# Altium integrated library Ferrite Chip.IntLib: 462 symbols (part 4 of 7)
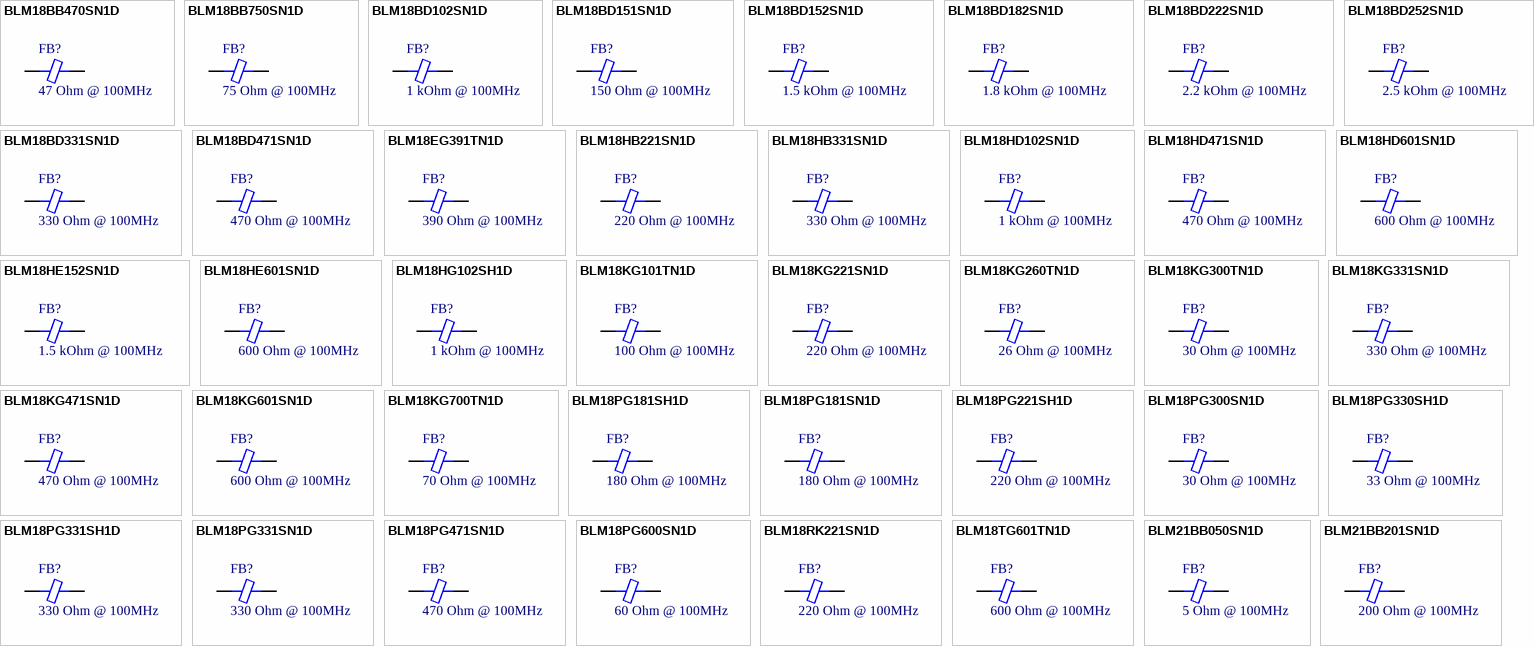
[diagram p14: symbols BLM18BB470SN1D to BLM21BB201SN1D]

## BLM18HD471SN1D
designator FB?, comment 470 Ohm @ 100MHz
FERRITE CHIP 470 OHM 100MA 0603; Part Number: BLM18HD471SN1D; Manufacturer: Murata Electronics North America; Type: Differential Mode - Single; DC Resistance: 1.2 Ohm Max; PartId: 6734; Value: 470 Ohm @ 100MHz; Supplier 1: Digi-Key; Supplier Part Number 1: 490-1029-2-ND; ComponentLink1Description: Datasheet; ComponentLink1URL: http://search.murata.co.jp/Ceramy/image/img/PDF/ENG/L0110S0101BLM18H.pdf; ComponentLink2Description: Digi-Key listing; ComponentLink2URL: http://digikey.com/product-detail/en/BLM18HD471SN1D/490-1029-2-ND/584240; Price: 0.0666; Device Package: 0603 (1608 Metric); Current Rating: 100mA
footprint FER 0603/1608
pins: 1, 2

## BLM18HD601SN1D
designator FB?, comment 600 Ohm @ 100MHz
FERRITE CHIP 600 OHM 100MA 0603; Part Number: BLM18HD601SN1D; Manufacturer: Murata Electronics North America; Type: Differential Mode - Single; DC Resistance: 1.5 Ohm Max; PartId: 6732; Value: 600 Ohm @ 100MHz; Supplier 1: Digi-Key; Supplier Part Number 1: 490-1030-2-ND; ComponentLink1Description: Datasheet; ComponentLink1URL: http://search.murata.co.jp/Ceramy/image/img/PDF/ENG/L0110S0101BLM18H.pdf; ComponentLink2Description: Digi-Key listing; ComponentLink2URL: http://digikey.com/product-detail/en/BLM18HD601SN1D/490-1030-2-ND/584241; Price: 0.0666; Device Package: 0603 (1608 Metric); Current Rating: 100mA
footprint FER 0603/1608
pins: 1, 2

## BLM18HE152SN1D
designator FB?, comment 1.5 kOhm @ 100MHz
FERRITE CHIP 1500 OHM 500MA 0603; Part Number: BLM18HE152SN1D; Manufacturer: Murata Electronics North America; Type: Differential Mode - Single; DC Resistance: 500 mOhm Max; PartId: 6736; Value: 1.5 kOhm @ 100MHz; Supplier 1: Digi-Key; Supplier Part Number 1: 490-5216-2-ND; ComponentLink1Description: Datasheet; ComponentLink1URL: http://search.murata.co.jp/Ceramy/image/img/PDF/ENG/L0110S0101BLM18H.pdf; ComponentLink2Description: Digi-Key listing; ComponentLink2URL: http://digikey.com/product-detail/en/BLM18HE152SN1D/490-5216-2-ND/1948321; Price: 0.0833; Device Package: 0603 (1608 Metric); Current Rating: 500mA
footprint FER 0603/1608
pins: 1, 2

## BLM18HE601SN1D
designator FB?, comment 600 Ohm @ 100MHz
FERRITE CHIP 600 OHM 800MA 0603; Part Number: BLM18HE601SN1D; Manufacturer: Murata Electronics North America; Type: Differential Mode - Single; DC Resistance: 250 mOhm Max; PartId: 6735; Value: 600 Ohm @ 100MHz; Supplier 1: Digi-Key; Supplier Part Number 1: 490-5214-2-ND; ComponentLink1Description: Datasheet; ComponentLink1URL: http://search.murata.co.jp/Ceramy/image/img/PDF/ENG/L0110S0101BLM18H.pdf; ComponentLink2Description: Digi-Key listing; ComponentLink2URL: http://digikey.com/product-detail/en/BLM18HE601SN1D/490-5214-2-ND/1948319; Price: 0.0753; Device Package: 0603 (1608 Metric); Current Rating: 800mA
footprint FER 0603/1608
pins: 1, 2

## BLM18HG102SH1D
designator FB?, comment 1 kOhm @ 100MHz
FERRITE CHIP 1K OHM 100MA 0603; Part Number: BLM18HG102SH1D; Manufacturer: Murata Electronics North America; Type: Differential Mode - Single; DC Resistance: 1.6 Ohm Max; PartId: 6731; Value: 1 kOhm @ 100MHz; Supplier 1: Digi-Key; Supplier Part Number 1: 490-11033-2-ND; ComponentLink1Description: Datasheet; ComponentLink1URL: http://search.murata.co.jp/Ceramy/image/img/A03X/QNFA9104.pdf; ComponentLink2Description: Digi-Key listing; ComponentLink2URL: http://digikey.com/product-detail/en/BLM18HG102SH1D/490-11033-2-ND/2588039; Price: 0.0645; Device Package: 0603 (1608 Metric); Current Rating: 100mA
footprint FER 0603/1608
pins: 1, 2

## BLM18KG101TN1D
designator FB?, comment 100 Ohm @ 100MHz
FERRITE CHIP 100 OHM CHIP 0603; Part Number: BLM18KG101TN1D; Manufacturer: Murata Electronics North America; Type: Differential Mode - Single; DC Resistance: 30 mOhm Max; Current Rating: 3A; PartId: 6697; Value: 100 Ohm @ 100MHz; Supplier 1: Digi-Key; Supplier Part Number 1: 490-5448-2-ND; ComponentLink1Description: Datasheet; ComponentLink1URL: http://media.digikey.com/pdf/Data%20Sheets/Murata%20PDFs/BLM18yyyyyyN1x.pdf; ComponentLink2Description: Digi-Key listing; ComponentLink2URL: http://digikey.com/product-detail/en/BLM18KG101TN1D/490-5448-2-ND/2260753; Price: 0.0331; Device Package: 0603 (1608 Metric)
footprint FER 0603/1608
pins: 1, 2

## BLM18KG221SN1D
designator FB?, comment 220 Ohm @ 100MHz
FERRITE CHIP 220 OHM 2200MA 0603; Part Number: BLM18KG221SN1D; Manufacturer: Murata Electronics North America; Type: Differential Mode - Single; DC Resistance: 50 mOhm Max; Current Rating: 2.2A; PartId: 6693; Value: 220 Ohm @ 100MHz; Supplier 1: Digi-Key; Supplier Part Number 1: 490-5255-2-ND; ComponentLink1Description: Datasheet; ComponentLink1URL: http://media.digikey.com/pdf/Data%20Sheets/Murata%20PDFs/BLM18yyyyyyN1x.pdf; ComponentLink2Description: Digi-Key listing; ComponentLink2URL: http://digikey.com/product-detail/en/BLM18KG221SN1D/490-5255-2-ND/1982763; Price: 0.0331; Device Package: 0603 (1608 Metric)
footprint FER 0603/1608
pins: 1, 2

## BLM18KG260TN1D
designator FB?, comment 26 Ohm @ 100MHz
FERRITE CHIP 26 OHM 6000MA 0603; Part Number: BLM18KG260TN1D; Manufacturer: Murata Electronics North America; Type: Differential Mode - Single; DC Resistance: 7 mOhm Max; Current Rating: 6A; PartId: 6692; Value: 26 Ohm @ 100MHz; Supplier 1: Digi-Key; Supplier Part Number 1: 490-5252-2-ND; ComponentLink1Description: Datasheet; ComponentLink1URL: http://media.digikey.com/pdf/Data%20Sheets/Murata%20PDFs/BLM18yyyyyyN1x.pdf; ComponentLink2Description: Digi-Key listing; ComponentLink2URL: http://digikey.com/product-detail/en/BLM18KG260TN1D/490-5252-2-ND/1982760; Price: 0.0331; Device Package: 0603 (1608 Metric)
footprint FER 0603/1608
pins: 1, 2

## BLM18KG300TN1D
designator FB?, comment 30 Ohm @ 100MHz
FERRITE CHIP 30 OHM CHIP 0603; Part Number: BLM18KG300TN1D; Manufacturer: Murata Electronics North America; Type: Differential Mode - Single; DC Resistance: 10 mOhm Max; Current Rating: 5A; PartId: 6700; Value: 30 Ohm @ 100MHz; Supplier 1: Digi-Key; Supplier Part Number 1: 490-5447-2-ND; ComponentLink1Description: Datasheet; ComponentLink1URL: http://media.digikey.com/pdf/Data%20Sheets/Murata%20PDFs/BLM18yyyyyyN1x.pdf; ComponentLink2Description: Digi-Key listing; ComponentLink2URL: http://digikey.com/product-detail/en/BLM18KG300TN1D/490-5447-2-ND/2260752; Price: 0.0331; Device Package: 0603 (1608 Metric)
footprint FER 0603/1608
pins: 1, 2

## BLM18KG331SN1D
designator FB?, comment 330 Ohm @ 100MHz
FERRITE CHIP 330 OHM 1700MA 0603; Part Number: BLM18KG331SN1D; Manufacturer: Murata Electronics North America; Type: Differential Mode - Single; DC Resistance: 80 mOhm Max; Current Rating: 1.7A; PartId: 6701; Value: 330 Ohm @ 100MHz; Supplier 1: Digi-Key; Supplier Part Number 1: 490-5256-2-ND; ComponentLink1Description: Datasheet; ComponentLink1URL: http://media.digikey.com/pdf/Data%20Sheets/Murata%20PDFs/BLM18yyyyyyN1x.pdf; ComponentLink2Description: Digi-Key listing; ComponentLink2URL: http://digikey.com/product-detail/en/BLM18KG331SN1D/490-5256-2-ND/1982764; Price: 0.0331; Device Package: 0603 (1608 Metric)
footprint FER 0603/1608
pins: 1, 2

## BLM18KG471SN1D
designator FB?, comment 470 Ohm @ 100MHz
FERRITE CHIP 470 OHM 1500MA 0603; Part Number: BLM18KG471SN1D; Manufacturer: Murata Electronics North America; Type: Differential Mode - Single; DC Resistance: 130 mOhm Max; Current Rating: 1.5A; PartId: 6702; Value: 470 Ohm @ 100MHz; Supplier 1: Digi-Key; Supplier Part Number 1: 490-5257-2-ND; ComponentLink1Description: Datasheet; ComponentLink1URL: http://media.digikey.com/pdf/Data%20Sheets/Murata%20PDFs/BLM18yyyyyyN1x.pdf; ComponentLink2Description: Digi-Key listing; ComponentLink2URL: http://digikey.com/product-detail/en/BLM18KG471SN1D/490-5257-2-ND/1982765; Price: 0.0331; Device Package: 0603 (1608 Metric)
footprint FER 0603/1608
pins: 1, 2

## BLM18KG601SN1D
designator FB?, comment 600 Ohm @ 100MHz
FERRITE CHIP 600 OHM 1300MA 0603; Part Number: BLM18KG601SN1D; Manufacturer: Murata Electronics North America; Type: Differential Mode - Single; DC Resistance: 150 mOhm Max; Current Rating: 1.3A; PartId: 6691; Value: 600 Ohm @ 100MHz; Supplier 1: Digi-Key; Supplier Part Number 1: 490-5258-2-ND; ComponentLink1Description: Datasheet; ComponentLink1URL: http://media.digikey.com/pdf/Data%20Sheets/Murata%20PDFs/BLM18yyyyyyN1x.pdf; ComponentLink2Description: Digi-Key listing; ComponentLink2URL: http://digikey.com/product-detail/en/BLM18KG601SN1D/490-5258-2-ND/1982766; Price: 0.0331; Device Package: 0603 (1608 Metric)
footprint FER 0603/1608
pins: 1, 2

## BLM18KG700TN1D
designator FB?, comment 70 Ohm @ 100MHz
FERRITE CHIP 70 OHM 3500MA 0603; Part Number: BLM18KG700TN1D; Manufacturer: Murata Electronics North America; Type: Differential Mode - Single; DC Resistance: 22 mOhm Max; Current Rating: 3.5A; PartId: 6694; Value: 70 Ohm @ 100MHz; Supplier 1: Digi-Key; Supplier Part Number 1: 490-5253-2-ND; ComponentLink1Description: Datasheet; ComponentLink1URL: http://media.digikey.com/pdf/Data%20Sheets/Murata%20PDFs/BLM18yyyyyyN1x.pdf; ComponentLink2Description: Digi-Key listing; ComponentLink2URL: http://digikey.com/product-detail/en/BLM18KG700TN1D/490-5253-2-ND/1982761; Price: 0.0331; Device Package: 0603 (1608 Metric)
footprint FER 0603/1608
pins: 1, 2

## BLM18PG181SH1D
designator FB?, comment 180 Ohm @ 100MHz
FERRITE CHIP 180 OHM 1.5A 0603; Part Number: BLM18PG181SH1D; Manufacturer: Murata Electronics North America; Type: Differential Mode - Single; DC Resistance: 90 mOhm Max; PartId: 6722; Value: 180 Ohm @ 100MHz; Supplier 1: Digi-Key; Supplier Part Number 1: 490-7816-2-ND; ComponentLink1Description: Datasheet; ComponentLink1URL: http://search.murata.co.jp/Ceramy/image/img/PDF/ENG/L0132S0193BLM18P.pdf; ComponentLink2Description: Digi-Key listing; ComponentLink2URL: http://digikey.com/product-detail/en/BLM18PG181SH1D/490-7816-2-ND/2588044; Price: 0.0366; Device Package: 0603 (1608 Metric); Current Rating: 1.5A
footprint FER 0603/1608
pins: 1, 2

## BLM18PG181SN1D
designator FB?, comment 180 Ohm @ 100MHz
FERRITE CHIP 180OHM 1500MA 0603; Part Number: BLM18PG181SN1D; Manufacturer: Murata Electronics North America; Type: Differential Mode - Single; DC Resistance: 90 mOhm Max; Current Rating: 1.5A; PartId: 6671; Value: 180 Ohm @ 100MHz; Supplier 1: Digi-Key; Supplier Part Number 1: 490-5263-2-ND; ComponentLink1Description: Datasheet; ComponentLink1URL: http://search.murata.co.jp/Ceramy/image/img/PDF/ENG/L0110S0100BLM18P.pdf; ComponentLink2Description: Digi-Key listing; ComponentLink2URL: http://digikey.com/product-detail/en/BLM18PG181SN1D/490-5263-2-ND/1634634; Price: 0.0317; Device Package: 0603 (1608 Metric)
footprint FER 0603/1608
pins: 1, 2

## BLM18PG221SH1D
designator FB?, comment 220 Ohm @ 100MHz
FERRITE CHIP 220 OHM 1.4A 0603; Part Number: BLM18PG221SH1D; Manufacturer: Murata Electronics North America; Type: Differential Mode - Single; DC Resistance: 100 mOhm Max; PartId: 6723; Value: 220 Ohm @ 100MHz; Supplier 1: Digi-Key; Supplier Part Number 1: 490-7817-2-ND; ComponentLink1Description: Datasheet; ComponentLink1URL: http://search.murata.co.jp/Ceramy/image/img/PDF/ENG/L0132S0193BLM18P.pdf; ComponentLink2Description: Digi-Key listing; ComponentLink2URL: http://digikey.com/product-detail/en/BLM18PG221SH1D/490-7817-2-ND/2588045; Price: 0.0366; Device Package: 0603 (1608 Metric); Current Rating: 1.4A
footprint FER 0603/1608
pins: 1, 2

## BLM18PG300SN1D
designator FB?, comment 30 Ohm @ 100MHz
FERRITE CHIP 30 OHM 1000MA 0603; Part Number: BLM18PG300SN1D; Manufacturer: Murata Electronics North America; Type: Differential Mode - Single; DC Resistance: 50 mOhm Max; Current Rating: 1A; PartId: 6673; Value: 30 Ohm @ 100MHz; Supplier 1: Digi-Key; Supplier Part Number 1: 490-1035-2-ND; ComponentLink1Description: Datasheet; ComponentLink1URL: http://search.murata.co.jp/Ceramy/image/img/PDF/ENG/L0110S0100BLM18P.pdf; ComponentLink2Description: Digi-Key listing; ComponentLink2URL: http://digikey.com/product-detail/en/BLM18PG300SN1D/490-1035-2-ND/584246; Price: 0.0317; Device Package: 0603 (1608 Metric)
footprint FER 0603/1608
pins: 1, 2

## BLM18PG330SH1D
designator FB?, comment 33 Ohm @ 100MHz
FERRITE CHIP 33 OHM 3A 0603; Part Number: BLM18PG330SH1D; Manufacturer: Murata Electronics North America; Type: Differential Mode - Single; DC Resistance: 25 mOhm Max; PartId: 6721; Value: 33 Ohm @ 100MHz; Supplier 1: Digi-Key; Supplier Part Number 1: 490-7818-2-ND; ComponentLink1Description: Datasheet; ComponentLink1URL: http://search.murata.co.jp/Ceramy/image/img/PDF/ENG/L0132S0193BLM18P.pdf; ComponentLink2Description: Digi-Key listing; ComponentLink2URL: http://digikey.com/product-detail/en/BLM18PG330SH1D/490-7818-2-ND/2588047; Price: 0.0366; Device Package: 0603 (1608 Metric); Current Rating: 3A
footprint FER 0603/1608
pins: 1, 2

## BLM18PG331SH1D
designator FB?, comment 330 Ohm @ 100MHz
FERRITE CHIP 330 OHM 1.2A 0603; Part Number: BLM18PG331SH1D; Manufacturer: Murata Electronics North America; Type: Differential Mode - Single; DC Resistance: 150 mOhm Max; PartId: 6724; Value: 330 Ohm @ 100MHz; Supplier 1: Digi-Key; Supplier Part Number 1: 490-11035-2-ND; ComponentLink1Description: Datasheet; ComponentLink1URL: http://search.murata.co.jp/Ceramy/image/img/PDF/ENG/L0132S0193BLM18P.pdf; ComponentLink2Description: Digi-Key listing; ComponentLink2URL: http://digikey.com/product-detail/en/BLM18PG331SH1D/490-11035-2-ND/2588048; Price: 0.0366; Device Package: 0603 (1608 Metric); Current Rating: 1.2A
footprint FER 0603/1608
pins: 1, 2

## BLM18PG331SN1D
designator FB?, comment 330 Ohm @ 100MHz
FERRITE CHIP 330 OHM 1200MA 0603; Part Number: BLM18PG331SN1D; Manufacturer: Murata Electronics North America; Type: Differential Mode - Single; DC Resistance: 150 mOhm Max; Current Rating: 1.2A; PartId: 6669; Value: 330 Ohm @ 100MHz; Supplier 1: Digi-Key; Supplier Part Number 1: 490-5222-2-ND; ComponentLink1Description: Datasheet; ComponentLink1URL: http://search.murata.co.jp/Ceramy/image/img/PDF/ENG/L0110S0100BLM18P.pdf; ComponentLink2Description: Digi-Key listing; ComponentLink2URL: http://digikey.com/product-detail/en/BLM18PG331SN1D/490-5222-2-ND/1948327; Price: 0.0317; Device Package: 0603 (1608 Metric)
footprint FER 0603/1608
pins: 1, 2

## BLM18PG471SN1D
designator FB?, comment 470 Ohm @ 100MHz
FERRITE CHIP 470 OHM 1000MA 0603; Part Number: BLM18PG471SN1D; Manufacturer: Murata Electronics North America; Type: Differential Mode - Single; DC Resistance: 200 mOhm Max; Current Rating: 1A; PartId: 6670; Value: 470 Ohm @ 100MHz; Supplier 1: Digi-Key; Supplier Part Number 1: 490-5223-2-ND; ComponentLink1Description: Datasheet; ComponentLink1URL: http://search.murata.co.jp/Ceramy/image/img/PDF/ENG/L0110S0100BLM18P.pdf; ComponentLink2Description: Digi-Key listing; ComponentLink2URL: http://digikey.com/product-detail/en/BLM18PG471SN1D/490-5223-2-ND/1948328; Price: 0.0317; Device Package: 0603 (1608 Metric)
footprint FER 0603/1608
pins: 1, 2

## BLM18PG600SN1D
designator FB?, comment 60 Ohm @ 100MHz
FERRITE CHIP 60 OHM 500MA 0603; Part Number: BLM18PG600SN1D; Manufacturer: Murata Electronics North America; Type: Differential Mode - Single; DC Resistance: 100 mOhm Max; PartId: 6672; Value: 60 Ohm @ 100MHz; Supplier 1: Digi-Key; Supplier Part Number 1: 490-1036-2-ND; ComponentLink1Description: Datasheet; ComponentLink1URL: http://search.murata.co.jp/Ceramy/image/img/PDF/ENG/L0110S0100BLM18P.pdf; ComponentLink2Description: Digi-Key listing; ComponentLink2URL: http://digikey.com/product-detail/en/BLM18PG600SN1D/490-1036-2-ND/584247; Price: 0.0317; Device Package: 0603 (1608 Metric); Current Rating: 500mA
footprint FER 0603/1608
pins: 1, 2

## BLM18RK221SN1D
designator FB?, comment 220 Ohm @ 100MHz
FERRITE CHIP 220 OHM 200MA 0603; Part Number: BLM18RK221SN1D; Manufacturer: Murata Electronics North America; Type: Differential Mode - Single; DC Resistance: 300 mOhm Max; PartId: 6680; Value: 220 Ohm @ 100MHz; Supplier 1: Digi-Key; Supplier Part Number 1: 490-5985-2-ND; ComponentLink1Description: Datasheet; ComponentLink1URL: http://media.digikey.com/pdf/Data%20Sheets/Murata%20PDFs/BLM18yyyyyyN1x.pdf; ComponentLink2Description: Digi-Key listing; ComponentLink2URL: http://digikey.com/product-detail/en/BLM18RK221SN1D/490-5985-2-ND/2588051; Price: 0.0323; Device Package: 0603 (1608 Metric); Current Rating: 200mA
footprint FER 0603/1608
pins: 1, 2

## BLM18TG601TN1D
designator FB?, comment 600 Ohm @ 100MHz
FERRITE CHIP 600 OHM 200MA 0603; Part Number: BLM18TG601TN1D; Manufacturer: Murata Electronics North America; Type: Differential Mode - Single; DC Resistance: 450 mOhm Max; PartId: 6583; Value: 600 Ohm @ 100MHz; Supplier 1: Digi-Key; Supplier Part Number 1: 490-9702-2-ND; ComponentLink1Description: Datasheet; ComponentLink1URL: http://media.digikey.com/pdf/Data%20Sheets/Murata%20PDFs/BLM18yyyyyyN1x.pdf; ComponentLink2Description: Digi-Key listing; ComponentLink2URL: http://digikey.com/product-detail/en/BLM18TG601TN1D/490-9702-2-ND/2588055; Price: 0.0214; Device Package: 0603 (1608 Metric); Current Rating: 200mA
footprint FER 0603/1608
pins: 1, 2

## BLM21BB050SN1D
designator FB?, comment 5 Ohm @ 100MHz
FERRITE CHIP 5 OHM 0805; Part Number: BLM21BB050SN1D; Manufacturer: Murata Electronics North America; Type: Differential Mode - Single; DC Resistance: 20 mOhm Max; Current Rating: 1A; PartId: 6831; Value: 5 Ohm @ 100MHz; Supplier 1: Digi-Key; Supplier Part Number 1: 490-9706-2-ND; ComponentLink1Description: Datasheet; ComponentLink1URL: http://search.murata.co.jp/Ceramy/image/img/PDF/ENG/L0110S0100BLM21B.pdf; ComponentLink2Description: Digi-Key listing; ComponentLink2URL: http://digikey.com/product-detail/en/BLM21BB050SN1D/490-9706-2-ND/2588076; Price: 0.0566; Device Package: 0805 (2012 Metric)
footprint FER 0805/2012
pins: 1, 2

## BLM21BB201SN1D
designator FB?, comment 200 Ohm @ 100MHz
FERRITE CHIP 200 OHM 0805; Part Number: BLM21BB201SN1D; Manufacturer: Murata Electronics North America; Type: Differential Mode - Single; DC Resistance: 260 mOhm Max; Current Rating: 500mA; PartId: 6833; Value: 200 Ohm @ 100MHz; Supplier 1: Digi-Key; Supplier Part Number 1: 490-9707-2-ND; ComponentLink1Description: Datasheet; ComponentLink1URL: http://search.murata.co.jp/Ceramy/image/img/PDF/ENG/L0110S0100BLM21B.pdf; ComponentLink2Description: Digi-Key listing; ComponentLink2URL: http://digikey.com/product-detail/en/BLM21BB201SN1D/490-9707-2-ND/2588081; Price: 0.0607; Device Package: 0805 (2012 Metric)
footprint FER 0805/2012
pins: 1, 2

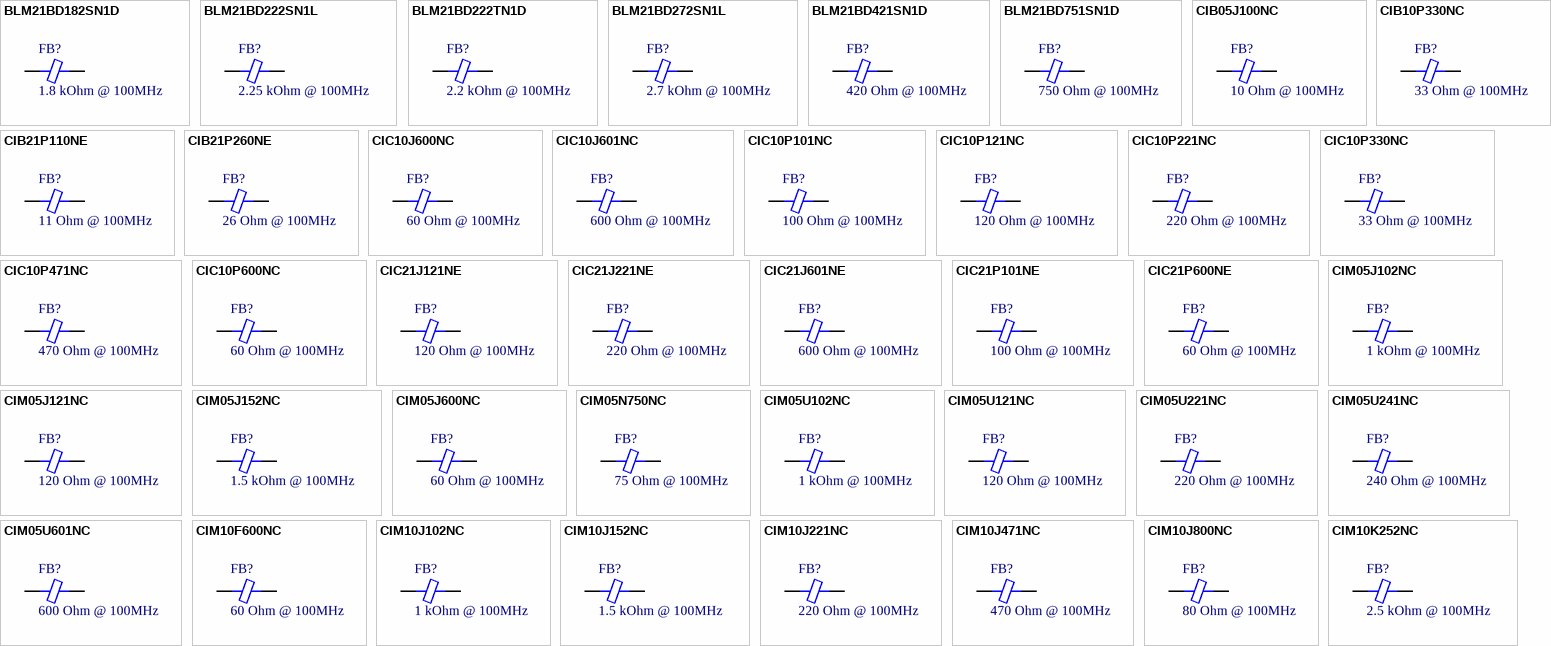
[diagram p6: symbols BLM21BD182SN1D to CIM10K252NC]

## BLM21BD182SN1D
designator FB?, comment 1.8 kOhm @ 100MHz
FERRITE CHIP 1800 OHM 0805; Part Number: BLM21BD182SN1D; Manufacturer: Murata Electronics North America; Type: Differential Mode - Single; DC Resistance: 500 mOhm Max; Current Rating: 200mA; PartId: 6840; Value: 1.8 kOhm @ 100MHz; Supplier 1: Digi-Key; Supplier Part Number 1: 490-1049-2-ND; ComponentLink1Description: Datasheet; ComponentLink1URL: http://search.murata.co.jp/Ceramy/image/img/PDF/ENG/L0110S0100BLM21B.pdf; ComponentLink2Description: Digi-Key listing; ComponentLink2URL: http://digikey.com/product-detail/en/BLM21BD182SN1D/490-1049-2-ND/584259; Price: 0.0786; Device Package: 0805 (2012 Metric)
footprint FER 0805/2012
pins: 1, 2

## BLM21BD222SN1L
designator FB?, comment 2.25 kOhm @ 100MHz
FERRITE CHIP 2250 OHM 0805; Part Number: BLM21BD222SN1L; Manufacturer: Murata Electronics North America; Type: Differential Mode - Single; DC Resistance: 600 mOhm Max; Current Rating: 200mA; PartId: 6838; Value: 2.25 kOhm @ 100MHz; Supplier 1: Digi-Key; Supplier Part Number 1: 490-9710-2-ND; ComponentLink1Description: Datasheet; ComponentLink1URL: http://search.murata.co.jp/Ceramy/image/img/PDF/ENG/L0110S0100BLM21B.pdf; ComponentLink2Description: Digi-Key listing; ComponentLink2URL: http://digikey.com/product-detail/en/BLM21BD222SN1L/490-9710-2-ND/2588099; Price: 0.0786; Device Package: 0805 (2012 Metric)
footprint FER 0805/2012
pins: 1, 2

## BLM21BD222TN1D
designator FB?, comment 2.2 kOhm @ 100MHz
FERRITE CHIP 2200 OHM 0805; Part Number: BLM21BD222TN1D; Manufacturer: Murata Electronics North America; Type: Differential Mode - Single; DC Resistance: 600 mOhm Max; Current Rating: 200mA; PartId: 6839; Value: 2.2 kOhm @ 100MHz; Supplier 1: Digi-Key; Supplier Part Number 1: 490-1050-2-ND; ComponentLink1Description: Datasheet; ComponentLink1URL: http://search.murata.co.jp/Ceramy/image/img/PDF/ENG/L0110S0100BLM21B.pdf; ComponentLink2Description: Digi-Key listing; ComponentLink2URL: http://digikey.com/product-detail/en/BLM21BD222TN1D/490-1050-2-ND/584260; Price: 0.0786; Device Package: 0805 (2012 Metric)
footprint FER 0805/2012
pins: 1, 2

## BLM21BD272SN1L
designator FB?, comment 2.7 kOhm @ 100MHz
FERRITE CHIP 2700 OHM 0805; Part Number: BLM21BD272SN1L; Manufacturer: Murata Electronics North America; Type: Differential Mode - Single; DC Resistance: 800 mOhm Max; Current Rating: 200mA; PartId: 6837; Value: 2.7 kOhm @ 100MHz; Supplier 1: Digi-Key; Supplier Part Number 1: 490-1051-2-ND; ComponentLink1Description: Datasheet; ComponentLink1URL: http://search.murata.co.jp/Ceramy/image/img/PDF/ENG/L0110S0100BLM21B.pdf; ComponentLink2Description: Digi-Key listing; ComponentLink2URL: http://digikey.com/product-detail/en/BLM21BD272SN1L/490-1051-2-ND/584261; Price: 0.0786; Device Package: 0805 (2012 Metric)
footprint FER 0805/2012
pins: 1, 2

## BLM21BD421SN1D
designator FB?, comment 420 Ohm @ 100MHz
FERRITE CHIP 420 OHM 0805; Part Number: BLM21BD421SN1D; Manufacturer: Murata Electronics North America; Type: Differential Mode - Single; DC Resistance: 300 mOhm Max; Current Rating: 200mA; PartId: 6830; Value: 420 Ohm @ 100MHz; Supplier 1: Digi-Key; Supplier Part Number 1: 490-11046-2-ND; ComponentLink1Description: Datasheet; ComponentLink1URL: http://search.murata.co.jp/Ceramy/image/img/PDF/ENG/L0110S0100BLM21B.pdf; ComponentLink2Description: Digi-Key listing; ComponentLink2URL: http://digikey.com/product-detail/en/BLM21BD421SN1D/490-11046-2-ND/2588105; Price: 0.0528; Device Package: 0805 (2012 Metric)
footprint FER 0805/2012
pins: 1, 2

## BLM21BD751SN1D
designator FB?, comment 750 Ohm @ 100MHz
FERRITE CHIP 750 OHM 0805; Part Number: BLM21BD751SN1D; Manufacturer: Murata Electronics North America; Type: Differential Mode - Single; DC Resistance: 400 mOhm Max; Current Rating: 200mA; PartId: 6832; Value: 750 Ohm @ 100MHz; Supplier 1: Digi-Key; Supplier Part Number 1: 490-11048-2-ND; ComponentLink1Description: Datasheet; ComponentLink1URL: http://search.murata.co.jp/Ceramy/image/img/PDF/ENG/L0110S0100BLM21B.pdf; ComponentLink2Description: Digi-Key listing; ComponentLink2URL: http://digikey.com/product-detail/en/BLM21BD751SN1D/490-11048-2-ND/2588109; Price: 0.0599; Device Package: 0805 (2012 Metric)
footprint FER 0805/2012
pins: 1, 2

## CIB05J100NC
designator FB?, comment 10 Ohm @ 100MHz
FERRITE CHIP 10 OHM 1200MA 0402; Part Number: CIB05J100NC; Manufacturer: Samsung Electro-Mechanics America, Inc.; Type: Differential Mode - Single; DC Resistance: 50 mOhm Max; Current Rating: 1.2A; PartId: 6449; Value: 10 Ohm @ 100MHz; Supplier 1: Digi-Key; Supplier Part Number 1: 1276-6346-2-ND; ComponentLink1Description: Datasheet; ComponentLink1URL: http://www.samsungsem.com/kr/front/downloadcms.do?path=/kr/support/product-search/bead/__icsFiles/afieldfile/2014/11/13&fileName=S_CIM05J102NC.pdf; ComponentLink2Description: Digi-Key listing; ComponentLink2URL: http://digikey.com/product-detail/en/CIB05J100NC/1276-6346-2-ND/3973895; Price: 0.0161; Device Package: 0402 (1005 Metric)
footprint FER 0402/1005
pins: 1, 2

## CIB10P330NC
designator FB?, comment 33 Ohm @ 100MHz
FERRITE CHIP 33 OHM 1000MA 0603; Part Number: CIB10P330NC; Manufacturer: Samsung Electro-Mechanics America, Inc.; Type: Differential Mode - Single; DC Resistance: 80 mOhm Max; Current Rating: 1A; PartId: 6582; Value: 33 Ohm @ 100MHz; Supplier 1: Digi-Key; Supplier Part Number 1: 1276-6387-2-ND; ComponentLink1Description: Datasheet; ComponentLink1URL: http://www.samsungsem.com/kr/front/downloadcms.do?path=/kr/support/product-search/bead/__icsFiles/afieldfile/2014/11/13&fileName=S_CIB10J300NC.pdf; ComponentLink2Description: Digi-Key listing; ComponentLink2URL: http://digikey.com/product-detail/en/CIB10P330NC/1276-6387-2-ND/3973812; Price: 0.0195; Device Package: 0603 (1608 Metric)
footprint FER 0603/1608
pins: 1, 2

## CIB21P110NE
designator FB?, comment 11 Ohm @ 100MHz
FERRITE CHIP 11 OHM 2000MA 0805; Part Number: CIB21P110NE; Manufacturer: Samsung Electro-Mechanics America, Inc.; Type: Differential Mode - Single; DC Resistance: 10 mOhm Max; Current Rating: 2A; PartId: 6756; Value: 11 Ohm @ 100MHz; Supplier 1: Digi-Key; Supplier Part Number 1: 1276-6349-2-ND; ComponentLink1Description: Datasheet; ComponentLink1URL: http://www.samsungsem.com/kr/front/downloadcms.do?path=/kr/support/product-search/bead/__icsFiles/afieldfile/2014/11/13&fileName=S_CIB21P110NE.pdf; ComponentLink2Description: Digi-Key listing; ComponentLink2URL: http://digikey.com/product-detail/en/CIB21P110NE/1276-6349-2-ND/3973779; Price: 0.013; Device Package: 0805 (2012 Metric)
footprint FER 0805/2012
pins: 1, 2

## CIB21P260NE
designator FB?, comment 26 Ohm @ 100MHz
FERRITE CHIP 26 OHM 2000MA 0805; Part Number: CIB21P260NE; Manufacturer: Samsung Electro-Mechanics America, Inc.; Type: Differential Mode - Single; DC Resistance: 10 mOhm Max; Current Rating: 2A; PartId: 6755; Value: 26 Ohm @ 100MHz; Supplier 1: Digi-Key; Supplier Part Number 1: 1276-6342-2-ND; ComponentLink1Description: Datasheet; ComponentLink1URL: http://www.samsungsem.com/kr/front/downloadcms.do?path=/kr/support/product-search/bead/__icsFiles/afieldfile/2014/11/13&fileName=S_CIB21P110NE.pdf; ComponentLink2Description: Digi-Key listing; ComponentLink2URL: http://digikey.com/product-detail/en/CIB21P260NE/1276-6342-2-ND/3973894; Price: 0.013; Device Package: 0805 (2012 Metric)
footprint FER 0805/2012
pins: 1, 2

## CIC10J600NC
designator FB?, comment 60 Ohm @ 100MHz
FERRITE CHIP 60 OHM 2000MA 0603; Part Number: CIC10J600NC; Manufacturer: Samsung Electro-Mechanics America, Inc.; Type: Differential Mode - Single; DC Resistance: 50 mOhm Max; Current Rating: 2A; PartId: 6580; Value: 60 Ohm @ 100MHz; Supplier 1: Digi-Key; Supplier Part Number 1: 1276-6357-2-ND; ComponentLink1Description: Datasheet; ComponentLink1URL: http://www.samsungsem.com/kr/front/downloadcms.do?path=/kr/support/product-search/bead/__icsFiles/afieldfile/2014/11/13&fileName=S_CIC10J121NC.pdf; ComponentLink2Description: Digi-Key listing; ComponentLink2URL: http://digikey.com/product-detail/en/CIC10J600NC/1276-6357-2-ND/3973732; Price: 0.0142; Device Package: 0603 (1608 Metric)
footprint FER 0603/1608
pins: 1, 2

## CIC10J601NC
designator FB?, comment 600 Ohm @ 100MHz
FERRITE CHIP 600 OHM 750MA 0603; Part Number: CIC10J601NC; Manufacturer: Samsung Electro-Mechanics America, Inc.; Type: Differential Mode - Single; DC Resistance: 150 mOhm Max; PartId: 6664; Value: 600 Ohm @ 100MHz; Supplier 1: Digi-Key; Supplier Part Number 1: 1276-6355-2-ND; ComponentLink1Description: Datasheet; ComponentLink1URL: http://www.samsungsem.com/kr/front/downloadcms.do?path=/kr/support/product-search/bead/__icsFiles/afieldfile/2014/11/13&fileName=S_CIC10J121NC.pdf; ComponentLink2Description: Digi-Key listing; ComponentLink2URL: http://digikey.com/product-detail/en/CIC10J601NC/1276-6355-2-ND/3973922; Price: 0.0303; Device Package: 0603 (1608 Metric); Current Rating: 750mA
footprint FER 0603/1608
pins: 1, 2

## CIC10P101NC
designator FB?, comment 100 Ohm @ 100MHz
FERRITE CHIP 100 OHM 2000MA 0603; Part Number: CIC10P101NC; Manufacturer: Samsung Electro-Mechanics America, Inc.; Type: Differential Mode - Single; DC Resistance: 50 mOhm Max; Current Rating: 2A; PartId: 6718; Value: 100 Ohm @ 100MHz; Supplier 1: Digi-Key; Supplier Part Number 1: 1276-6319-2-ND; ComponentLink1Description: Datasheet; ComponentLink1URL: http://www.samsungsem.com/kr/front/downloadcms.do?path=/kr/support/product-search/bead/__icsFiles/afieldfile/2014/11/13&fileName=S_CIC10J121NC.pdf; ComponentLink2Description: Digi-Key listing; ComponentLink2URL: http://digikey.com/product-detail/en/CIC10P101NC/1276-6319-2-ND/3973898; Price: 0.0337; Device Package: 0603 (1608 Metric)
footprint FER 0603/1608
pins: 1, 2

## CIC10P121NC
designator FB?, comment 120 Ohm @ 100MHz
FERRITE CHIP 120 OHM 2000MA 0603; Part Number: CIC10P121NC; Manufacturer: Samsung Electro-Mechanics America, Inc.; Type: Differential Mode - Single; DC Resistance: 50 mOhm Max; Current Rating: 2A; PartId: 6667; Value: 120 Ohm @ 100MHz; Supplier 1: Digi-Key; Supplier Part Number 1: 1276-6328-2-ND; ComponentLink1Description: Datasheet; ComponentLink1URL: http://www.samsungsem.com/kr/front/downloadcms.do?path=/kr/support/product-search/bead/__icsFiles/afieldfile/2014/11/13&fileName=S_CIC10J121NC.pdf; ComponentLink2Description: Digi-Key listing; ComponentLink2URL: http://digikey.com/product-detail/en/CIC10P121NC/1276-6328-2-ND/3973717; Price: 0.031; Device Package: 0603 (1608 Metric)
footprint FER 0603/1608
pins: 1, 2

## CIC10P221NC
designator FB?, comment 220 Ohm @ 100MHz
FERRITE CHIP 220 OHM 1400MA 0603; Part Number: CIC10P221NC; Manufacturer: Samsung Electro-Mechanics America, Inc.; Type: Differential Mode - Single; DC Resistance: 100 mOhm Max; Current Rating: 1.4A; PartId: 6616; Value: 220 Ohm @ 100MHz; Supplier 1: Digi-Key; Supplier Part Number 1: 1276-6327-2-ND; ComponentLink1Description: Datasheet; ComponentLink1URL: http://www.samsungsem.com/kr/front/downloadcms.do?path=/kr/support/product-search/bead/__icsFiles/afieldfile/2014/11/13&fileName=S_CIC10J121NC.pdf; ComponentLink2Description: Digi-Key listing; ComponentLink2URL: http://digikey.com/product-detail/en/CIC10P221NC/1276-6327-2-ND/3973789; Price: 0.0275; Device Package: 0603 (1608 Metric)
footprint FER 0603/1608
pins: 1, 2

## CIC10P330NC
designator FB?, comment 33 Ohm @ 100MHz
FERRITE CHIP 33 OHM 3000MA 0603; Part Number: CIC10P330NC; Manufacturer: Samsung Electro-Mechanics America, Inc.; Type: Differential Mode - Single; DC Resistance: 25 mOhm Max; Current Rating: 3A; PartId: 6599; Value: 33 Ohm @ 100MHz; Supplier 1: Digi-Key; Supplier Part Number 1: 1276-6321-2-ND; ComponentLink1Description: Datasheet; ComponentLink1URL: http://www.samsungsem.com/kr/front/downloadcms.do?path=/kr/support/product-search/bead/__icsFiles/afieldfile/2014/11/13&fileName=S_CIC10J121NC.pdf; ComponentLink2Description: Digi-Key listing; ComponentLink2URL: http://digikey.com/product-detail/en/CIC10P330NC/1276-6321-2-ND/3973804; Price: 0.0258; Device Package: 0603 (1608 Metric)
footprint FER 0603/1608
pins: 1, 2

## CIC10P471NC
designator FB?, comment 470 Ohm @ 100MHz
FERRITE CHIP 470 OHM 1200MA 0603; Part Number: CIC10P471NC; Manufacturer: Samsung Electro-Mechanics America, Inc.; Type: Differential Mode - Single; DC Resistance: 150 mOhm Max; Current Rating: 1.2A; PartId: 6578; Value: 470 Ohm @ 100MHz; Supplier 1: Digi-Key; Supplier Part Number 1: 1276-6358-2-ND; ComponentLink1Description: Datasheet; ComponentLink1URL: http://www.samsungsem.com/kr/front/downloadcms.do?path=/kr/support/product-search/bead/__icsFiles/afieldfile/2014/11/13&fileName=S_CIC10J121NC.pdf; ComponentLink2Description: Digi-Key listing; ComponentLink2URL: http://digikey.com/product-detail/en/CIC10P471NC/1276-6358-2-ND/3973741; Price: 0.0118; Device Package: 0603 (1608 Metric)
footprint FER 0603/1608
pins: 1, 2

## CIC10P600NC
designator FB?, comment 60 Ohm @ 100MHz
FERRITE CHIP 60 OHM 2500MA 0603; Part Number: CIC10P600NC; Manufacturer: Samsung Electro-Mechanics America, Inc.; Type: Differential Mode - Single; DC Resistance: 50 mOhm Max; Current Rating: 2.5A; PartId: 6596; Value: 60 Ohm @ 100MHz; Supplier 1: Digi-Key; Supplier Part Number 1: 1276-6320-2-ND; ComponentLink1Description: Datasheet; ComponentLink1URL: http://www.samsungsem.com/kr/front/downloadcms.do?path=/kr/support/product-search/bead/__icsFiles/afieldfile/2014/11/13&fileName=S_CIC10J121NC.pdf; ComponentLink2Description: Digi-Key listing; ComponentLink2URL: http://digikey.com/product-detail/en/CIC10P600NC/1276-6320-2-ND/3973905; Price: 0.0247; Device Package: 0603 (1608 Metric)
footprint FER 0603/1608
pins: 1, 2

## CIC21J121NE
designator FB?, comment 120 Ohm @ 100MHz
FERRITE CHIP 120 OHM 2500MA 0805; Part Number: CIC21J121NE; Manufacturer: Samsung Electro-Mechanics America, Inc.; Type: Differential Mode - Single; DC Resistance: 50 mOhm Max; Current Rating: 2.5A; PartId: 6817; Value: 120 Ohm @ 100MHz; Supplier 1: Digi-Key; Supplier Part Number 1: 1276-6373-2-ND; ComponentLink1Description: Datasheet; ComponentLink1URL: http://www.samsungsem.com/kr/front/downloadcms.do?path=/kr/support/product-search/bead/__icsFiles/afieldfile/2014/11/13&fileName=S_CIC21J121NE.pdf; ComponentLink2Description: Digi-Key listing; ComponentLink2URL: http://digikey.com/product-detail/en/CIC21J121NE/1276-6373-2-ND/3973909; Price: 0.0392; Device Package: 0805 (2012 Metric)
footprint FER 0805/2012
pins: 1, 2

## CIC21J221NE
designator FB?, comment 220 Ohm @ 100MHz
FERRITE CHIP 220 OHM 1500MA 0805; Part Number: CIC21J221NE; Manufacturer: Samsung Electro-Mechanics America, Inc.; Type: Differential Mode - Single; DC Resistance: 50 mOhm Max; Current Rating: 1.5A; PartId: 6784; Value: 220 Ohm @ 100MHz; Supplier 1: Digi-Key; Supplier Part Number 1: 1276-6372-2-ND; ComponentLink1Description: Datasheet; ComponentLink1URL: http://www.samsungsem.com/kr/front/downloadcms.do?path=/kr/support/product-search/bead/__icsFiles/afieldfile/2014/11/13&fileName=S_CIC21J121NE.pdf; ComponentLink2Description: Digi-Key listing; ComponentLink2URL: http://digikey.com/product-detail/en/CIC21J221NE/1276-6372-2-ND/3973850; Price: 0.0298; Device Package: 0805 (2012 Metric)
footprint FER 0805/2012
pins: 1, 2

## CIC21J601NE
designator FB?, comment 600 Ohm @ 100MHz
FERRITE CHIP 600 OHM 1000MA 0805; Part Number: CIC21J601NE; Manufacturer: Samsung Electro-Mechanics America, Inc.; Type: Differential Mode - Single; DC Resistance: 150 mOhm Max; Current Rating: 1A; PartId: 6774; Value: 600 Ohm @ 100MHz; Supplier 1: Digi-Key; Supplier Part Number 1: 1276-6371-2-ND; ComponentLink1Description: Datasheet; ComponentLink1URL: http://www.samsungsem.com/kr/front/downloadcms.do?path=/kr/support/product-search/bead/__icsFiles/afieldfile/2014/11/13&fileName=S_CIC21J121NE.pdf; ComponentLink2Description: Digi-Key listing; ComponentLink2URL: http://digikey.com/product-detail/en/CIC21J601NE/1276-6371-2-ND/3973807; Price: 0.0275; Device Package: 0805 (2012 Metric)
footprint FER 0805/2012
pins: 1, 2

## CIC21P101NE
designator FB?, comment 100 Ohm @ 100MHz
FERRITE CHIP 100 OHM 2000MA 0805; Part Number: CIC21P101NE; Manufacturer: Samsung Electro-Mechanics America, Inc.; Type: Differential Mode - Single; DC Resistance: 20 mOhm Max; Current Rating: 2A; PartId: 6759; Value: 100 Ohm @ 100MHz; Supplier 1: Digi-Key; Supplier Part Number 1: 1276-6374-2-ND; ComponentLink1Description: Datasheet; ComponentLink1URL: http://www.samsungsem.com/kr/front/downloadcms.do?path=/kr/support/product-search/bead/__icsFiles/afieldfile/2014/11/13&fileName=S_CIC21J121NE.pdf; ComponentLink2Description: Digi-Key listing; ComponentLink2URL: http://digikey.com/product-detail/en/CIC21P101NE/1276-6374-2-ND/3973735; Price: 0.0163; Device Package: 0805 (2012 Metric)
footprint FER 0805/2012
pins: 1, 2

## CIC21P600NE
designator FB?, comment 60 Ohm @ 100MHz
FERRITE CHIP 60 OHM 3000MA 0805; Part Number: CIC21P600NE; Manufacturer: Samsung Electro-Mechanics America, Inc.; Type: Differential Mode - Single; DC Resistance: 25 mOhm Max; Current Rating: 3A; PartId: 6782; Value: 60 Ohm @ 100MHz; Supplier 1: Digi-Key; Supplier Part Number 1: 1276-6375-2-ND; ComponentLink1Description: Datasheet; ComponentLink1URL: http://www.samsungsem.com/kr/front/downloadcms.do?path=/kr/support/product-search/bead/__icsFiles/afieldfile/2014/11/13&fileName=S_CIC21J121NE.pdf; ComponentLink2Description: Digi-Key listing; ComponentLink2URL: http://digikey.com/product-detail/en/CIC21P600NE/1276-6375-2-ND/3973818; Price: 0.0278; Device Package: 0805 (2012 Metric)
footprint FER 0805/2012
pins: 1, 2

## CIM05J102NC
designator FB?, comment 1 kOhm @ 100MHz
FERRITE CHIP 1000 OHM 250MA 0402; Part Number: CIM05J102NC; Manufacturer: Samsung Electro-Mechanics America, Inc.; Type: Differential Mode - Single; DC Resistance: 800 mOhm Max; PartId: 6494; Value: 1 kOhm @ 100MHz; Supplier 1: Digi-Key; Supplier Part Number 1: 1276-6396-2-ND; ComponentLink1Description: Datasheet; ComponentLink1URL: http://www.samsungsem.com/kr/front/downloadcms.do?path=/kr/support/product-search/bead/__icsFiles/afieldfile/2014/11/13&fileName=S_CIM05J102NC.pdf; ComponentLink2Description: Digi-Key listing; ComponentLink2URL: http://digikey.com/product-detail/en/CIM05J102NC/1276-6396-2-ND/3973873; Price: 0.0281; Device Package: 0402 (1005 Metric); Current Rating: 250mA
footprint FER 0402/1005
pins: 1, 2

## CIM05J121NC
designator FB?, comment 120 Ohm @ 100MHz
FERRITE CHIP 120 OHM 500MA 0402; Part Number: CIM05J121NC; Manufacturer: Samsung Electro-Mechanics America, Inc.; Type: Differential Mode - Single; DC Resistance: 250 mOhm Max; PartId: 6474; Value: 120 Ohm @ 100MHz; Supplier 1: Digi-Key; Supplier Part Number 1: 1276-6334-2-ND; ComponentLink1Description: Datasheet; ComponentLink1URL: http://www.samsungsem.com/kr/front/downloadcms.do?path=/kr/support/product-search/bead/__icsFiles/afieldfile/2014/11/13&fileName=S_CIM05J102NC.pdf; ComponentLink2Description: Digi-Key listing; ComponentLink2URL: http://digikey.com/product-detail/en/CIM05J121NC/1276-6334-2-ND/3973784; Price: 0.025; Device Package: 0402 (1005 Metric); Current Rating: 500mA
footprint FER 0402/1005
pins: 1, 2

## CIM05J152NC
designator FB?, comment 1.5 kOhm @ 100MHz
FERRITE CHIP 1500 OHM 250MA 0402; Part Number: CIM05J152NC; Manufacturer: Samsung Electro-Mechanics America, Inc.; Type: Differential Mode - Single; DC Resistance: 1 Ohm Max; PartId: 6452; Value: 1.5 kOhm @ 100MHz; Supplier 1: Digi-Key; Supplier Part Number 1: 1276-6395-2-ND; ComponentLink1Description: Datasheet; ComponentLink1URL: http://www.samsungsem.com/kr/front/downloadcms.do?path=/kr/support/product-search/bead/__icsFiles/afieldfile/2014/11/13&fileName=S_CIM05J102NC.pdf; ComponentLink2Description: Digi-Key listing; ComponentLink2URL: http://digikey.com/product-detail/en/CIM05J152NC/1276-6395-2-ND/3973874; Price: 0.0225; Device Package: 0402 (1005 Metric); Current Rating: 250mA
footprint FER 0402/1005
pins: 1, 2

## CIM05J600NC
designator FB?, comment 60 Ohm @ 100MHz
FERRITE CHIP 60 OHM 650MA 0402; Part Number: CIM05J600NC; Manufacturer: Samsung Electro-Mechanics America, Inc.; Type: Differential Mode - Single; DC Resistance: 200 mOhm Max; PartId: 6443; Value: 60 Ohm @ 100MHz; Supplier 1: Digi-Key; Supplier Part Number 1: 1276-6335-2-ND; ComponentLink1Description: Datasheet; ComponentLink1URL: http://www.samsungsem.com/kr/front/downloadcms.do?path=/kr/support/product-search/bead/__icsFiles/afieldfile/2014/11/13&fileName=S_CIM05J102NC.pdf; ComponentLink2Description: Digi-Key listing; ComponentLink2URL: http://digikey.com/product-detail/en/CIM05J600NC/1276-6335-2-ND/3973783; Price: 0.0054; Device Package: 0402 (1005 Metric); Current Rating: 650mA
footprint FER 0402/1005
pins: 1, 2

## CIM05N750NC
designator FB?, comment 75 Ohm @ 100MHz
FERRITE CHIP 75 OHM 300MA 0402; Part Number: CIM05N750NC; Manufacturer: Samsung Electro-Mechanics America, Inc.; Type: Differential Mode - Single; DC Resistance: 350 mOhm Max; PartId: 6448; Value: 75 Ohm @ 100MHz; Supplier 1: Digi-Key; Supplier Part Number 1: 1276-6393-2-ND; ComponentLink1Description: Datasheet; ComponentLink1URL: http://www.samsungsem.com/kr/front/downloadcms.do?path=/kr/support/product-search/bead/__icsFiles/afieldfile/2014/11/13&fileName=S_CIM05J102NC.pdf; ComponentLink2Description: Digi-Key listing; ComponentLink2URL: http://digikey.com/product-detail/en/CIM05N750NC/1276-6393-2-ND/3973876; Price: 0.0147; Device Package: 0402 (1005 Metric); Current Rating: 300mA
footprint FER 0402/1005
pins: 1, 2

## CIM05U102NC
designator FB?, comment 1 kOhm @ 100MHz
FERRITE CHIP 1000 OHM 300MA 0402; Part Number: CIM05U102NC; Manufacturer: Samsung Electro-Mechanics America, Inc.; Type: Differential Mode - Single; DC Resistance: 800 mOhm Max; PartId: 6446; Value: 1 kOhm @ 100MHz; Supplier 1: Digi-Key; Supplier Part Number 1: 1276-6336-2-ND; ComponentLink1Description: Datasheet; ComponentLink1URL: http://www.samsungsem.com/kr/front/downloadcms.do?path=/kr/support/product-search/bead/__icsFiles/afieldfile/2014/11/13&fileName=S_CIM05J102NC.pdf; ComponentLink2Description: Digi-Key listing; ComponentLink2URL: http://digikey.com/product-detail/en/CIM05U102NC/1276-6336-2-ND/3973782; Price: 0.0129; Device Package: 0402 (1005 Metric); Current Rating: 300mA
footprint FER 0402/1005
pins: 1, 2

## CIM05U121NC
designator FB?, comment 120 Ohm @ 100MHz
FERRITE CHIP 120 OHM 600MA 0402; Part Number: CIM05U121NC; Manufacturer: Samsung Electro-Mechanics America, Inc.; Type: Differential Mode - Single; DC Resistance: 250 mOhm Max; PartId: 6447; Value: 120 Ohm @ 100MHz; Supplier 1: Digi-Key; Supplier Part Number 1: 1276-6345-2-ND; ComponentLink1Description: Datasheet; ComponentLink1URL: http://www.samsungsem.com/kr/front/downloadcms.do?path=/kr/support/product-search/bead/__icsFiles/afieldfile/2014/11/13&fileName=S_CIM05J102NC.pdf; ComponentLink2Description: Digi-Key listing; ComponentLink2URL: http://digikey.com/product-detail/en/CIM05U121NC/1276-6345-2-ND/3973775; Price: 0.0147; Device Package: 0402 (1005 Metric); Current Rating: 600mA
footprint FER 0402/1005
pins: 1, 2

## CIM05U221NC
designator FB?, comment 220 Ohm @ 100MHz
FERRITE CHIP 220 OHM 500MA 0402; Part Number: CIM05U221NC; Manufacturer: Samsung Electro-Mechanics America, Inc.; Type: Differential Mode - Single; DC Resistance: 350 mOhm Max; PartId: 6444; Value: 220 Ohm @ 100MHz; Supplier 1: Digi-Key; Supplier Part Number 1: 1276-6344-2-ND; ComponentLink1Description: Datasheet; ComponentLink1URL: http://www.samsungsem.com/kr/front/downloadcms.do?path=/kr/support/product-search/bead/__icsFiles/afieldfile/2014/11/13&fileName=S_CIM05J102NC.pdf; ComponentLink2Description: Digi-Key listing; ComponentLink2URL: http://digikey.com/product-detail/en/CIM05U221NC/1276-6344-2-ND/3973776; Price: 0.0073; Device Package: 0402 (1005 Metric); Current Rating: 500mA
footprint FER 0402/1005
pins: 1, 2

## CIM05U241NC
designator FB?, comment 240 Ohm @ 100MHz
FERRITE CHIP 240 OHM 400MA 0402; Part Number: CIM05U241NC; Manufacturer: Samsung Electro-Mechanics America, Inc.; Type: Differential Mode - Single; DC Resistance: 350 mOhm Max; PartId: 6450; Value: 240 Ohm @ 100MHz; Supplier 1: Digi-Key; Supplier Part Number 1: 1276-6343-2-ND; ComponentLink1Description: Datasheet; ComponentLink1URL: http://www.samsungsem.com/kr/front/downloadcms.do?path=/kr/support/product-search/bead/__icsFiles/afieldfile/2014/11/13&fileName=S_CIM05J102NC.pdf; ComponentLink2Description: Digi-Key listing; ComponentLink2URL: http://digikey.com/product-detail/en/CIM05U241NC/1276-6343-2-ND/3973777; Price: 0.0173; Device Package: 0402 (1005 Metric); Current Rating: 400mA
footprint FER 0402/1005
pins: 1, 2

## CIM05U601NC
designator FB?, comment 600 Ohm @ 100MHz
FERRITE CHIP 600 OHM 300MA 0402; Part Number: CIM05U601NC; Manufacturer: Samsung Electro-Mechanics America, Inc.; Type: Differential Mode - Single; DC Resistance: 600 mOhm Max; PartId: 6445; Value: 600 Ohm @ 100MHz; Supplier 1: Digi-Key; Supplier Part Number 1: 1276-6337-2-ND; ComponentLink1Description: Datasheet; ComponentLink1URL: http://www.samsungsem.com/kr/front/downloadcms.do?path=/kr/support/product-search/bead/__icsFiles/afieldfile/2014/11/13&fileName=S_CIM05J102NC.pdf; ComponentLink2Description: Digi-Key listing; ComponentLink2URL: http://digikey.com/product-detail/en/CIM05U601NC/1276-6337-2-ND/3973778; Price: 0.0129; Device Package: 0402 (1005 Metric); Current Rating: 300mA
footprint FER 0402/1005
pins: 1, 2

## CIM10F600NC
designator FB?, comment 60 Ohm @ 100MHz
FERRITE CHIP 60 OHM 550MA 0603; Part Number: CIM10F600NC; Manufacturer: Samsung Electro-Mechanics America, Inc.; Type: Differential Mode - Single; DC Resistance: 250 mOhm Max; PartId: 6600; Value: 60 Ohm @ 100MHz; Supplier 1: Digi-Key; Supplier Part Number 1: 1276-6323-2-ND; ComponentLink1Description: Datasheet; ComponentLink1URL: http://www.samsungsem.com/kr/front/downloadcms.do?path=/kr/support/product-search/bead/__icsFiles/afieldfile/2014/11/13&fileName=S_CIM10F121NC.pdf; ComponentLink2Description: Digi-Key listing; ComponentLink2URL: http://digikey.com/product-detail/en/CIM10F600NC/1276-6323-2-ND/3973915; Price: 0.0275; Device Package: 0603 (1608 Metric); Current Rating: 550mA
footprint FER 0603/1608
pins: 1, 2

## CIM10J102NC
designator FB?, comment 1 kOhm @ 100MHz
FERRITE CHIP 1000 OHM 250MA 0603; Part Number: CIM10J102NC; Manufacturer: Samsung Electro-Mechanics America, Inc.; Type: Differential Mode - Single; DC Resistance: 600 mOhm Max; PartId: 6591; Value: 1 kOhm @ 100MHz; Supplier 1: Digi-Key; Supplier Part Number 1: 1276-6378-2-ND; ComponentLink1Description: Datasheet; ComponentLink1URL: http://www.samsungsem.com/kr/front/downloadcms.do?path=/kr/support/product-search/bead/__icsFiles/afieldfile/2014/11/13&fileName=S_CIM10F121NC.pdf; ComponentLink2Description: Digi-Key listing; ComponentLink2URL: http://digikey.com/product-detail/en/CIM10J102NC/1276-6378-2-ND/3973771; Price: 0.0247; Device Package: 0603 (1608 Metric); Current Rating: 250mA
footprint FER 0603/1608
pins: 1, 2

## CIM10J152NC
designator FB?, comment 1.5 kOhm @ 100MHz
FERRITE CHIP 1500 OHM 250MA 0603; Part Number: CIM10J152NC; Manufacturer: Samsung Electro-Mechanics America, Inc.; Type: Differential Mode - Single; DC Resistance: 700 mOhm Max; PartId: 6661; Value: 1.5 kOhm @ 100MHz; Supplier 1: Digi-Key; Supplier Part Number 1: 1276-6326-2-ND; ComponentLink1Description: Datasheet; ComponentLink1URL: http://www.samsungsem.com/kr/front/downloadcms.do?path=/kr/support/product-search/bead/__icsFiles/afieldfile/2014/11/13&fileName=S_CIM10F121NC.pdf; ComponentLink2Description: Digi-Key listing; ComponentLink2URL: http://digikey.com/product-detail/en/CIM10J152NC/1276-6326-2-ND/3973912; Price: 0.0301; Device Package: 0603 (1608 Metric); Current Rating: 250mA
footprint FER 0603/1608
pins: 1, 2

## CIM10J221NC
designator FB?, comment 220 Ohm @ 100MHz
FERRITE CHIP 220 OHM 400MA 0603; Part Number: CIM10J221NC; Manufacturer: Samsung Electro-Mechanics America, Inc.; Type: Differential Mode - Single; DC Resistance: 300 mOhm Max; PartId: 6575; Value: 220 Ohm @ 100MHz; Supplier 1: Digi-Key; Supplier Part Number 1: 1276-6381-2-ND; ComponentLink1Description: Datasheet; ComponentLink1URL: http://www.samsungsem.com/kr/front/downloadcms.do?path=/kr/support/product-search/bead/__icsFiles/afieldfile/2014/11/13&fileName=S_CIM10F121NC.pdf; ComponentLink2Description: Digi-Key listing; ComponentLink2URL: http://digikey.com/product-detail/en/CIM10J221NC/1276-6381-2-ND/3973766; Price: 0.0109; Device Package: 0603 (1608 Metric); Current Rating: 400mA
footprint FER 0603/1608
pins: 1, 2

## CIM10J471NC
designator FB?, comment 470 Ohm @ 100MHz
FERRITE CHIP 470 OHM 300MA 0603; Part Number: CIM10J471NC; Manufacturer: Samsung Electro-Mechanics America, Inc.; Type: Differential Mode - Single; DC Resistance: 350 mOhm Max; PartId: 6579; Value: 470 Ohm @ 100MHz; Supplier 1: Digi-Key; Supplier Part Number 1: 1276-6380-2-ND; ComponentLink1Description: Datasheet; ComponentLink1URL: http://www.samsungsem.com/kr/front/downloadcms.do?path=/kr/support/product-search/bead/__icsFiles/afieldfile/2014/11/13&fileName=S_CIM10F121NC.pdf; ComponentLink2Description: Digi-Key listing; ComponentLink2URL: http://digikey.com/product-detail/en/CIM10J471NC/1276-6380-2-ND/3973767; Price: 0.013; Device Package: 0603 (1608 Metric); Current Rating: 300mA
footprint FER 0603/1608
pins: 1, 2

## CIM10J800NC
designator FB?, comment 80 Ohm @ 100MHz
FERRITE CHIP 80 OHM 550MA 0603; Part Number: CIM10J800NC; Manufacturer: Samsung Electro-Mechanics America, Inc.; Type: Differential Mode - Single; DC Resistance: 150 mOhm Max; PartId: 6662; Value: 80 Ohm @ 100MHz; Supplier 1: Digi-Key; Supplier Part Number 1: 1276-6383-2-ND; ComponentLink1Description: Datasheet; ComponentLink1URL: http://www.samsungsem.com/kr/front/downloadcms.do?path=/kr/support/product-search/bead/__icsFiles/afieldfile/2014/11/13&fileName=S_CIM10F121NC.pdf; ComponentLink2Description: Digi-Key listing; ComponentLink2URL: http://digikey.com/product-detail/en/CIM10J800NC/1276-6383-2-ND/3973764; Price: 0.0301; Device Package: 0603 (1608 Metric); Current Rating: 550mA
footprint FER 0603/1608
pins: 1, 2

## CIM10K252NC
designator FB?, comment 2.5 kOhm @ 100MHz
FERRITE CHIP 2500 OHM 200MA 0603; Part Number: CIM10K252NC; Manufacturer: Samsung Electro-Mechanics America, Inc.; Type: Differential Mode - Single; DC Resistance: 1.2 Ohm Max; PartId: 6618; Value: 2.5 kOhm @ 100MHz; Supplier 1: Digi-Key; Supplier Part Number 1: 1276-6325-2-ND; ComponentLink1Description: Datasheet; ComponentLink1URL: http://www.samsungsem.com/kr/front/downloadcms.do?path=/kr/support/product-search/bead/__icsFiles/afieldfile/2014/11/13&fileName=S_CIM10F121NC.pdf; ComponentLink2Description: Digi-Key listing; ComponentLink2URL: http://digikey.com/product-detail/en/CIM10K252NC/1276-6325-2-ND/3973913; Price: 0.0275; Device Package: 0603 (1608 Metric); Current Rating: 200mA
footprint FER 0603/1608
pins: 1, 2

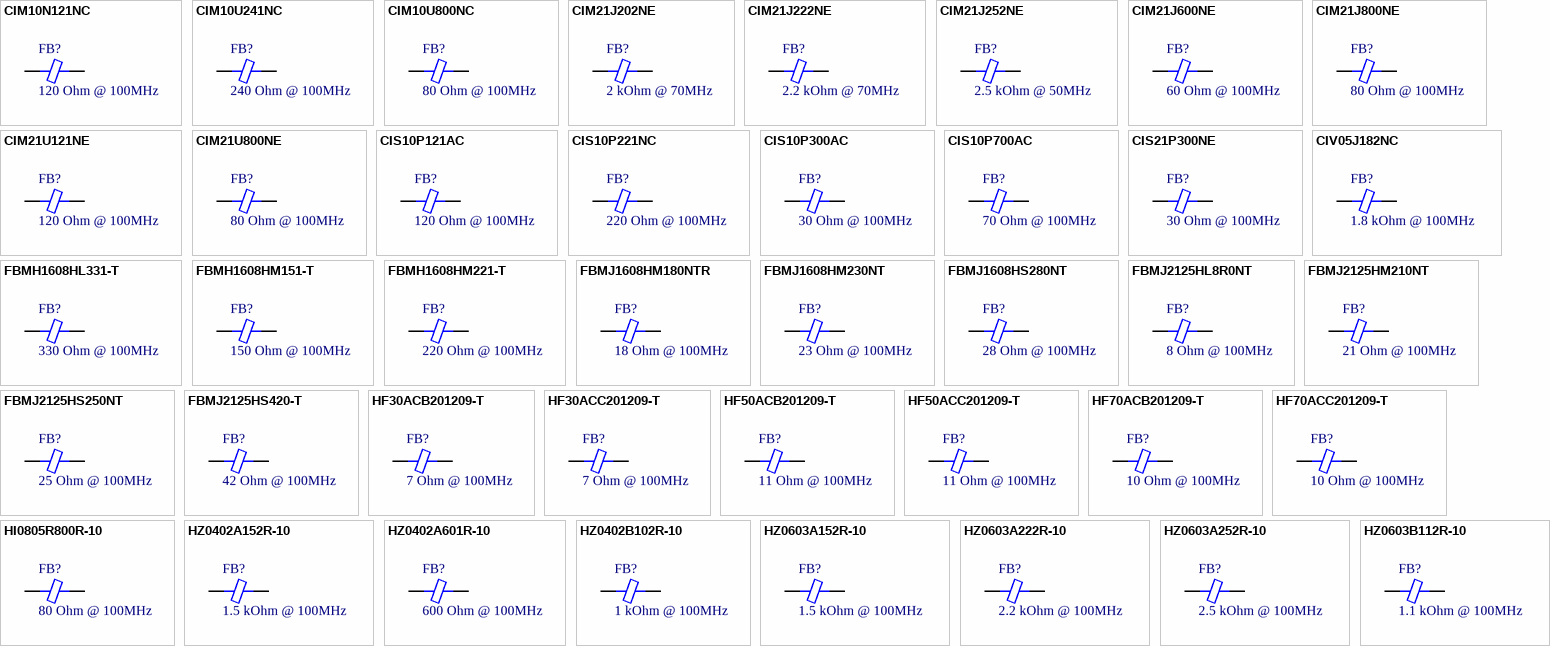
[diagram p7: symbols CIM10N121NC to HZ0603B112R-10]